# Altium footprint library PcbLib1.PcbLib: 1 footprints
Each footprint in its own frame and in the unit in brackets; x right, y up, seen from the top. Pads: shape width x height; smd on the part's side, far side on the other; paste and mask are expansions set on the pad; w line width, h text height; cw(c..) or ccw(c..) is an arc to the next point about the centre after c.
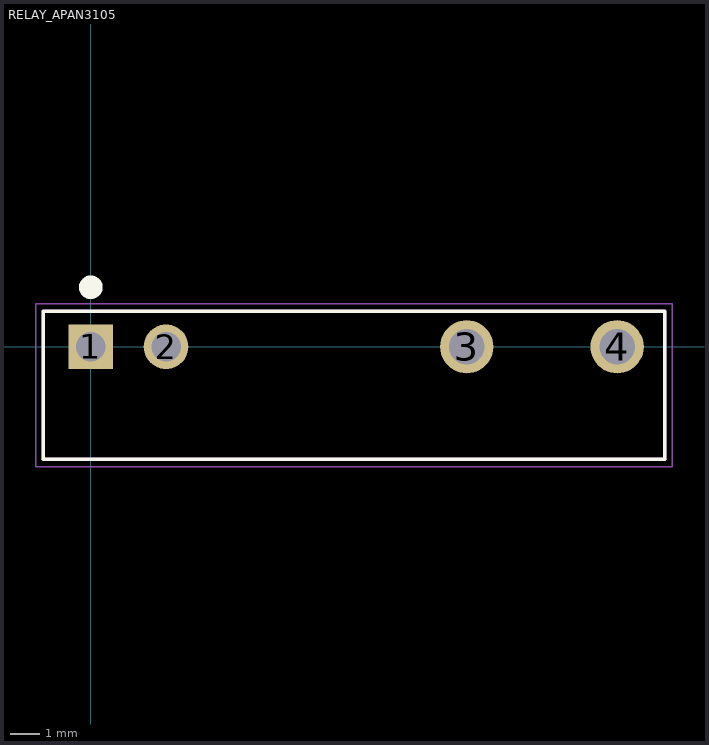
[diagram p0: the footprint, top view; thin cyan lines are the x and y axes]

## RELAY_APAN3105 [mm]
pads (4):
  rect 1.508x1.508 / inner round 1.508 / far side rect 1.508x1.508 hole 1: 1(0,0)
  round 1.508 hole 1: 2(2.54,0)
  round 1.8 hole 1.2: 3(12.7,0) 4(17.78,0)
Top Overlay:
  circle w0.4: c0,2.01 r0.2
  lines w0.127: -1.61,-3.8 -1.61,1.2 19.39,1.2 19.39,-3.8 -1.61,-3.8
Mechanical 13:
  lines w0.127: -1.61,-3.8 -1.61,1.2 19.39,1.2 19.39,-3.8 -1.61,-3.8
Mechanical 15:
  lines w0.05: -1.86,-4.05 -1.86,1.45 19.64,1.45 19.64,-4.05 -1.86,-4.05
3D body "step_temp.STEP": height 12.8, standoff -3.5, extent -1.61,-3.897 19.39,1.103